# Altium schematic symbol library MCU_ST_STM32G0.SchLib: 252 symbols (part 5 of 5)
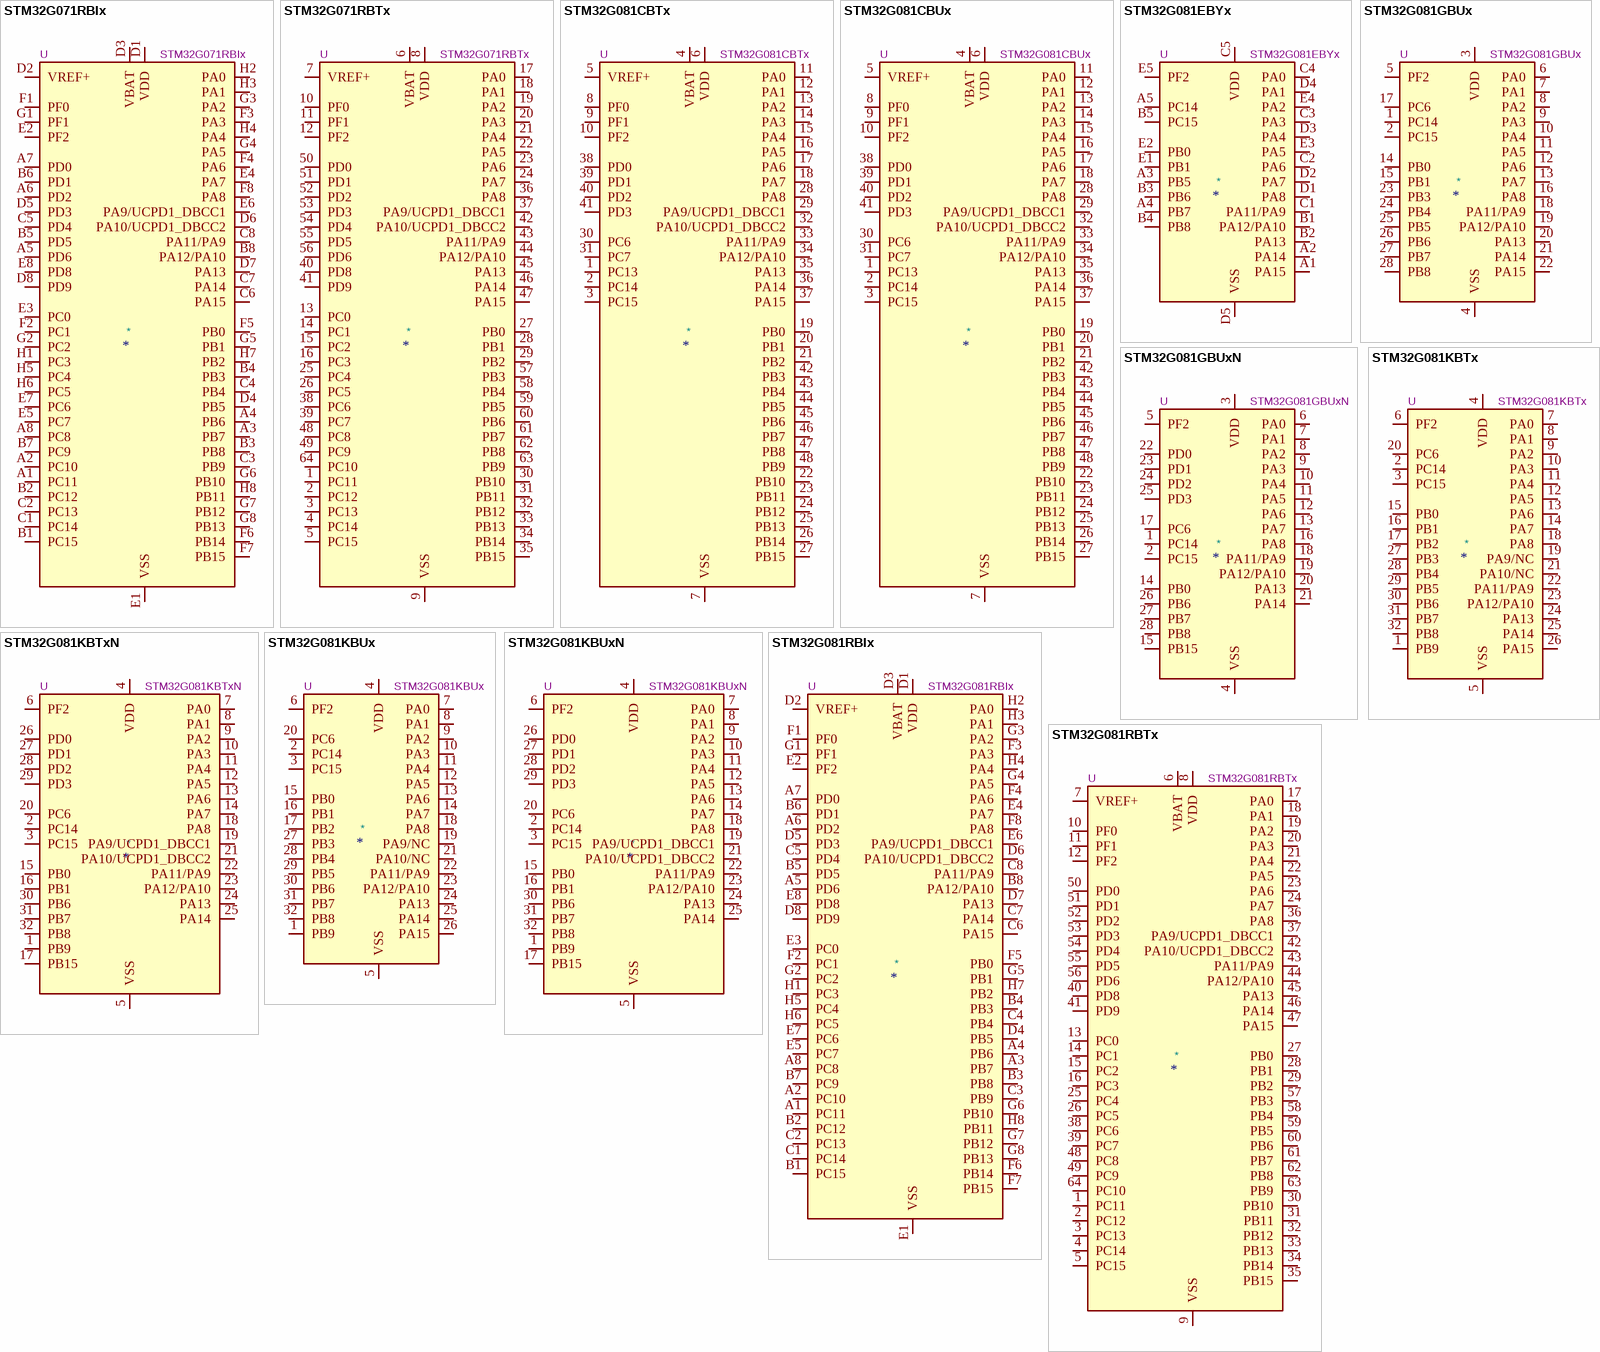
[diagram p23: symbols STM32G071RBIx to STM32G081RBTx]

## STM32G081RBTx
designator *  value STM32G081RBTx  Reference: U
ki_keywords: Arm Cortex-M0+ STM32G0 STM32G0x1; ki_description: STMicroelectronics Arm Cortex-M0+ MCU, 128KB flash, 36KB RAM, 64 MHz, 1.7-3.6V, 60 GPIO, LQFP64; ki_fp_filters: LQFP*10x10mm*P0.5mm*; Footprint: Package_QFP:LQFP-64_10x10mm_P0.5mm; Datasheet: https://www.st.com/resource/en/datasheet/stm32g081rb.pdf
pins: 1 PC11, 2 PC12, 3 PC13, 4 PC14, 5 PC15, 6 VBAT, 7 VREF+, 8 VDD, 9 VSS, 10 PF0, 11 PF1, 12 PF2, 13 PC0, 14 PC1, 15 PC2, 16 PC3, 17 PA0, 18 PA1, 19 PA2, 20 PA3, 21 PA4, 22 PA5, 23 PA6, 24 PA7, 25 PC4, 26 PC5, 27 PB0, 28 PB1, 29 PB2, 30 PB10, 31 PB11, 32 PB12, 33 PB13, 34 PB14, 35 PB15, 36 PA8, 37 PA9/UCPD1_DBCC1, 38 PC6, 39 PC7, 40 PD8, 41 PD9, 42 PA10/UCPD1_DBCC2, 43 PA11/PA9, 44 PA12/PA10, 45 PA13, 46 PA14, 47 PA15, 48 PC8, 49 PC9, 50 PD0, 51 PD1, 52 PD2, 53 PD3, 54 PD4, 55 PD5, 56 PD6, 57 PB3, 58 PB4, 59 PB5, 60 PB6, 61 PB7, 62 PB8, 63 PB9, 64 PC10